# Altium integrated library Zilog Peripheral Data Encryption Processor.IntLib: 1 symbol
Pins are listed as number, name and electrical type; pins without a type are passive.

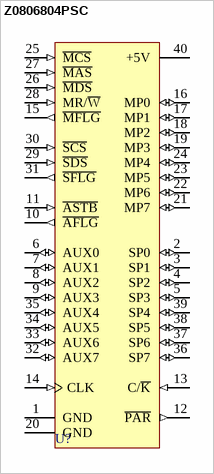
[diagram p0: symbol Z0806804PSC]

## Z0806804PSC
designator U?
Data Ciphering Processor; Published: 15-Apr-2002; LatestRevisionDate: 04-Mar-2005; LatestRevisionNote: Stylized 3D Model Added.; DatasheetVersion: Oct-1988; PackageVersion: Jun-1999; PackageReference: PDIP40; Publisher: Altium Limited; PackageDescription: DIP; 40 Leads; Row Spacing 15.24 mm; Pitch 2.54 mm; ComponentLink1Description: Manufacturer Link; ComponentLink1URL: http://www.zilog.com/
footprint PDIP40 (DIP; 40 Leads; Row Spacing 15.24 mm; Pitch 2.54 mm)
3D model PDIP40 (DIP; 40 Leads; Row Spacing 15.24 mm; Pitch 2.54 mm)
pins: 1 GND (power), 2 SP0 (io), 3 SP1 (io), 4 SP2 (io), 5 SP3 (io), 6 AUX0 (io), 7 AUX1 (io), 8 AUX2 (io), 9 AUX3 (io), 10 ~{AFLG} (out), 11 ~{ASTB} (in), 12 ~{PAR} (out), 13 C/~{K} (in), 14 CLK (in), 15 ~{MFLG} (out), 16 MP0 (io), 17 MP1 (io), 18 MP2 (io), 19 MP3 (io), 20 GND (power), 21 MP7 (io), 22 MP6 (io), 23 MP5 (io), 24 MP4 (io), 25 ~{MCS} (in), 26 ~{MDS} (in), 27 ~{MAS} (in), 28 MR/~{W} (in), 29 ~{SDS} (in), 30 ~{SCS} (in), 31 ~{SFLG} (out), 32 AUX7 (io), 33 AUX6 (io), 34 AUX5 (io), 35 AUX4 (io), 36 SP7 (io), 37 SP6 (io), 38 SP5 (io), 39 SP4 (io), 40 +5V (power)